# Altium schematic symbol library ITU_Rocket_Main_Board.SchLib: 32 symbols
Pins are listed as number, name and electrical type; pins without a type are passive.

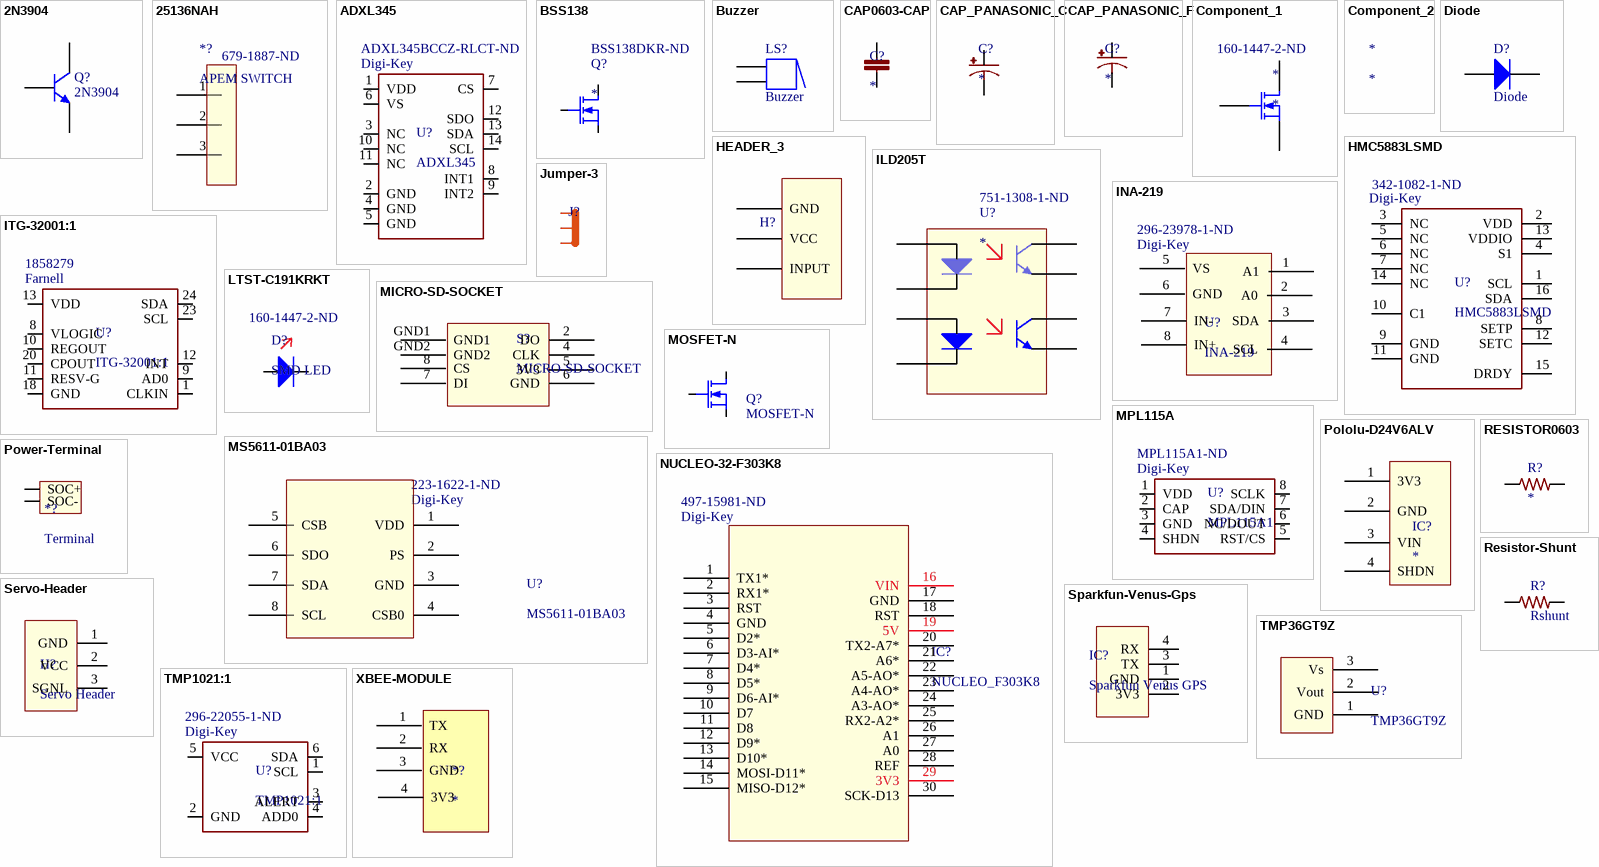
[diagram p0: symbols 2N3904 to XBEE-MODULE]

## 2N3904
designator Q?
NPN General Purpose Amplifier; Published: 8-Jun-2000; LatestRevisionDate: 15-Jan-2003; LatestRevisionNote: PCB Footprint 'BCY-W3/D4.7' replaced; DatasheetVersion: 1997; PackageVersion: Sep-1998; PackageReference: TO-92A; Publisher: Altium Limited; PackageDescription: TO, Flat Index; 3 In-Line, Axial Leads; Body Dia. 4.5mm; Leads 0.51 x 0.48 mm (max); ComponentLink1Description: Manufacturer Link; ComponentLink1URL: http://www.fairchildsemi.com/; ComponentLink2Description: Datasheet; ComponentLink2URL: http://www.fairchildsemi.com/ds/2N%2F2N3904.pdf
footprint TO-92A (TO, Flat Index; 3 In-Line, Axial Leads; Body Dia. 4.5mm; Leads 0.51 x 0.48 mm (max))
simulation model 2N3904 (NPN)
signal-integrity model 2N3904
pins: 1 E, 2 B, 3 C

## 25136NAH
designator *?, comment APEM SWITCH  Supplier Part Number 1: 679-1887-ND
SWITCH SLIDE SPDT 4A 125V; Manufacturer: Apem Inc.; Manufacturer Part Number: 25136NAH; Contact Timing: Not Specified; Switch Function: On-On; Current Rating: 4A (AC), 1A (DC); Voltage Rating - DC: 30V; Actuator Type: Standard; Actuator Length: 2.80mm; Actuator Material: Polyamide (PA), Nylon, Glass Filled; Switch Travel: 4.00mm; Mechanical Life: 20,000 Cycles; Electrical Life: 10,000 Cycles; Supplier 1: Digi-Key; RoHS: RoHS Compliant; Category: Switches; Stock 1: 2924; Pricing 1: 1=4.57, 50=4.243, 100=3.0039, 250=2.96436, 500=2.45056, 1000=2.29245, 5000=2.13435 (USD); Packaging: Bulk; Circuit: SPDT; Voltage Rating - AC: 125V; Contact Material: Silver (Ag); Contact Finish: -; Mounting Type: Through Hole; Termination Style: PC Pin; Features: Epoxy Sealed Terminals; Operating Temperature: -40°C ~ 85°C; Operating Force: -; ComponentLink1URL: http://www.apem.com/files/apem/brochures/switch-slide-25000N-ENG.pdf; ComponentLink1Description: http://www.apem.com/files/apem/brochures/switch-slide-25000N-ENG.pdf
footprint Switch_5.08
pins: 1, 2, 3

## ADXL345
designator U?  Supplier 1: Digi-Key  Supplier Part Number 1: ADXL345BCCZ-RLCT-ND
footprint LGA14
pins: 1 VDD, 2 GND, 3 NC, 4 GND, 5 GND, 6 VS, 7 CS, 8 INT1, 9 INT2, 10 NC, 11 NC, 12 SDO, 13 SDA, 14 SCL

## BSS138
designator Q?  Supplier Part Number 1: BSS138DKR-ND
MOSFET N-CH 50V 220MA SOT-23; Manufacturer: Fairchild Semiconductor; Manufacturer Part Number: BSS138; FET Type: MOSFET N-Channel, Metal Oxide; FET Feature: Logic Level Gate; Current - Continuous Drain (Id) @ 25°C: 220mA (Ta); Rds On (Max) @ Id, Vgs: 3.5 Ohm @ 220mA, 10V; Vgs(th) (Max) @ Id: 1.5V @ 1mA; Gate Charge (Qg) @ Vgs: 2.4nC @ 10V; Input Capacitance (Ciss) @ Vds: 27pF @ 25V; Power - Max: 360mW; Supplier 1: Digi-Key; RoHS: RoHS Compliant; Category: Discrete Semiconductor Products; Stock 1: 382113; Pricing 1: 1=0.22, 10=0.178, 100=0.0945, 500=0.06214, 1000=0.04234 (USD); Packaging: Digi-Reel®; Drain to Source Voltage (Vdss): 50V; Mounting Type: Surface Mount; Package / Case: TO-236-3, SC-59, SOT-23-3; Supplier Device Package: SOT-23; ComponentLink1URL: http://www.fairchildsemi.com/datasheets/BS/BSS138.pdf; ComponentLink1Description: http://www.fairchildsemi.com/datasheets/BS/BSS138.pdf
footprint SOT23-3
pins: D, G, S

## Buzzer
designator LS?
Magnetic Transducer Buzzer; Published: 24-Mar-1999; LatestRevisionDate: 17-Dec-2003; LatestRevisionNote: Schematic revised, PCB Footprint replaced.; DatasheetVersion: 17-Dec-2003; PackageReference: ABSM-1574; Publisher: Altium Limited; PackageDescription: Magnetic Transducer Buzzer; ComponentLink1Description: Manufacturer Link; ComponentLink1URL: http://www.megastar.com/linecard/buzzmode/index.php
footprint Buzzer-A3
pins: 1, 2
1 alternate drawing of the same symbol

## CAP0603-CAP
designator C?
Manufacturer: Fairchild Semiconductor; Manufacturer Part Number: BSS138; FET Type: MOSFET N-Channel, Metal Oxide; FET Feature: Logic Level Gate; Drain to Source Voltage (Vdss): 50V; Current - Continuous Drain (Id) @ 25°C: 220mA (Ta); Rds On (Max) @ Id, Vgs: 3.5 Ohm @ 220mA, 10V; Vgs(th) (Max) @ Id: 1.5V @ 1mA; Gate Charge (Qg) @ Vgs: 2.4nC @ 10V; Input Capacitance (Ciss) @ Vds: 27pF @ 25V; Power - Max: 360mW; RoHS: RoHS Compliant; Category: Discrete Semiconductor Products; Packaging: Cut Tape (CT); Mounting Type: Surface Mount; Package / Case: TO-236-3, SC-59, SOT-23-3; Supplier Device Package: SOT-23; ComponentLink1URL: http://www.fairchildsemi.com/datasheets/BS/BSS138.pdf; ComponentLink1Description: http://www.fairchildsemi.com/datasheets/BS/BSS138.pdf
footprint 0603-CAP
pins: 1, 2

## CAP_PANASONIC_C
designator C?
footprint PANASONIC_C
pins: +, -

## CAP_PANASONIC_F
designator C?
footprint PANASONIC_E
pins: +, -

## Component_1
designator *  Supplier Part Number 1: 160-1447-2-ND
Supplier 1: Digi-Key
pins: D, G, S

## Component_2
designator *

## Diode
designator D?
Default Diode; Published: 8-Jun-2000; LatestRevisionDate: 17-Jul-2002; LatestRevisionNote: Re-released for DXP Platform.; PackageVersion: Sep-1996; PackageReference: SMC; Publisher: Altium Limited; PackageDescription: DO-214-AB/SMC; 2 C-Bend Leads; Body 7.9 x 5.9 mm, inc. leads (LxW); Code_JEDEC: DO-214-AB
footprint SMB (DO-214-AA/SMB; 2 C-Bend Leads; Body 5.3 x 3.6 mm, inc. leads (LxW))
pins: 1 A, 2 K

## HEADER_3
designator H?, comment Header  (value not drawn)
footprint HEADER_3
pins: 1 GND, 2 VCC, 3 INPUT

## HMC5883LSMD
designator U?  Supplier 1: Digi-Key  Supplier Part Number 1: 342-1082-1-ND
PROD_ID: IC-10284
footprint 16LPCC
pins: 1 SCL, 2 VDD, 3 NC, 4 S1, 5 NC, 6 NC, 7 NC, 8 SETP, 9 GND, 10 C1, 11 GND, 12 SETC, 13 VDDIO, 14 NC, 15 DRDY, 16 SDA

## ILD205T
designator U?  Supplier Part Number 1: 751-1308-1-ND
OPTOISOLTR 4KV 2CH TRANS 8-SOIC; Manufacturer: Vishay Semiconductor Opto Division; Manufacturer Part Number: ILD205T; Number of Channels: 2; Voltage - Isolation: 4000Vrms; Current Transfer Ratio (Min): 40% @ 10mA; Current Transfer Ratio (Max): 80% @ 10mA; Turn On / Turn Off Time (Typ): 6µs, 5µs; Rise / Fall Time (Typ): 3µs, 4.7µs; Input Type: DC; Output Type: Transistor; Voltage - Output (Max): 70V; Voltage - Forward (Vf) (Typ): 1.2V; Current - DC Forward (If) (Max): 30mA; Vce Saturation (Max): 400mV; Supplier 1: Digi-Key; RoHS: RoHS Compliant; Category: Isolators; Stock 1: 3215; Pricing 1: 1=1.52, 10=1.213, 25=0.9268, 100=0.8425, 250=0.7414, 500=0.62346, 750=0.55605, 1000=0.5392 (USD); Packaging: Cut Tape (CT); Current - Output / Channel: -; Operating Temperature: -55°C ~ 100°C; Mounting Type: Surface Mount; Package / Case: 8-SOIC (0.154", 3.90mm Width); Supplier Device Package: 8-SOIC; ComponentLink1URL: http://www.vishay.com/docs/83647/ild205t.pdf; ComponentLink1Description: http://www.vishay.com/docs/83647/ild205t.pdf
footprint SOIC-8-ILD205T (SOIC, 8-Leads, Body 6,00x3,96mm, Pitch 1,27mm, IPC Medium Density)
pins: 1 A, 2 C, 3 A, 4 C, 5 E, 6 C, 7 E, 8 C

## INA-219
designator U?  Supplier 1: Digi-Key  Supplier Part Number 1: 296-23978-1-ND
footprint SOIC127P600X175-8N (SOIC, 8-Leads, Body 4,90x3,90mm, Pitch 1,27mm, IPC Medium Density)
pins: 1 A1, 2 A0, 3 SDA, 4 SCL, 5 VS, 6 GND, 7 IN-, 8 IN+

## ITG-32001:1
designator U?  Supplier 1: Farnell  Supplier Part Number 1: 1858279
PROD_ID: IC-09685
footprint QFN-24_ITG3200_1:1
pins: 1 CLKIN, 8 VLOGIC, 9 AD0, 10 REGOUT, 11 RESV-G, 12 INT, 13 VDD, 18 GND, 20 CPOUT, 23 SCL, 24 SDA

## Jumper-3
designator J?
footprint SJ_3
pins: 1, 2, 3

## LTST-C191KRKT
designator D?, comment SMD LED  Supplier Part Number 1: 160-1447-2-ND
LED RED CLEAR 0603 SMD; Manufacturer: Lite-On Inc.; Manufacturer Part Number: LTST-C191KRKT; Lens Color: Colorless; Millicandela Rating: 54mcd; Lens Style/Size: Rectangle with Flat Top, 1.10mm x 0.80mm; Voltage - Forward (Vf) (Typ): 2V; Current - Test: 20mA; Viewing Angle: 130°; Wavelength - Dominant: 631nm; Wavelength - Peak: 639nm; Supplier 1: Digi-Key; RoHS: RoHS Compliant; Category: Optoelectronics; Stock 1: 305000; Pricing 1: 5000=0.03636, 10000=0.03272, 25000=0.02909, 50000=0.02636, 125000=0.02454 (USD); Packaging: Tape & Reel (TR); Color: Red; Lens Transparency: Clear; Mounting Type: Surface Mount; Features: -; Package / Case: 0603 (1608 Metric); Supplier Device Package: *; Size / Dimension: 1.60mm L x 0.80mm W; Height (Max): 0.55mm; ComponentLink1URL: http://optoelectronics.liteon.com/upload/download/DS22-2000-223/S_110_LTST-C191KRKT.pdf; ComponentLink1Description: http://optoelectronics.liteon.com/upload/download/DS22-2000-223/S_110_LTST-C191KRKT.pdf
footprint 0603-SMD-LED
pins: 1 A, 2 K

## MICRO-SD-SOCKET
designator S?
footprint micro-sd
pins: 2 DO, 4 CLK, 5 3V3, 6 GND, 7 DI, 8 CS, GND1, GND2

## MOSFET-N
designator Q?
N-Channel MOSFET; Published: 8-Jun-2000; LatestRevisionDate: 17-Jul-2002; LatestRevisionNote: Re-released for DXP Platform.; PackageVersion: 1995/1996; PackageReference: E3; Publisher: Altium Limited; PackageDescription: TO, Flat Index; 3 In-Line, Axial Leads; Body Dia. 4.6mm; Lead Dia. 0.5 mm (max)
footprint to-252
pins: D, G, S

## MPL115A
designator U?, comment MPL115A1  Supplier 1: Digi-Key  Supplier Part Number 1: MPL115A1-ND
footprint LGA8
pins: 1 VDD, 2 CAP, 3 GND, 4 SHDN, 5 RST/CS, 6 NC/DOUT, 7 SDA/DIN, 8 SCLK

## MS5611-01BA03
designator U?  Supplier 1: Digi-Key  Supplier Part Number 1: 223-1622-1-ND
footprint MS5611-01BA03
pins: 1 VDD (power), 2 PS, 3 GND (power), 4 CSB0, 5 CSB, 6 SDO, 7 SDA, 8 SCL

## NUCLEO-32-F303K8
designator IC?, comment NUCLEO_F303K8  Supplier 1: Digi-Key  Supplier Part Number 1: 497-15981-ND
footprint nucleo_f303 (breakoutboard)
pins: 1 TX1*, 2 RX1*, 3 RST, 4 GND, 5 D2*, 6 D3-AI*, 7 D4*, 8 D5*, 9 D6-AI*, 10 D7, 11 D8, 12 D9*, 13 D10*, 14 MOSI-D11*, 15 MISO-D12*, 16 VIN, 17 GND, 18 RST, 19 5V, 20 TX2-A7*, 21 A6*, 22 A5-AO*, 23 A4-AO*, 24 A3-AO*, 25 RX2-A2*, 26 A1, 27 A0, 28 REF, 29 3V3, 30 SCK-D13

## Pololu-D24V6ALV
designator IC?
footprint Pololu-D24V6ALV
pins: 1 3V3, 2 GND, 3 VIN, 4 SHDN

## Power-Terminal
designator *?, comment Terminal
footprint POWER_SOCKET
pins: + SOC+, - SOC-

## RESISTOR0603
designator R?
footprint 0603-RES
pins: 1, 2

## Resistor-Shunt
designator R?, comment Rshunt
footprint Resistor-Shunt
pins: + 2, - 1

## Servo-Header
designator H?, comment Servo Header
footprint SERVO
pins: 1 GND, 2 VCC, 3 SGNL

## Sparkfun-Venus-Gps
designator IC?, comment Sparkfun Venus GPS
footprint SPARKFUN_VENUS_GPS
pins: 1 GND, 2 3V3, 3 TX, 4 RX

## TMP36GT9Z
designator U?
SENSOR TEMP RATIOMETRIC TO92-3
footprint TO-92-AMMO
pins: 1 GND, 2 Vout, 3 Vs

## TMP1021:1
designator U?  Supplier 1: Digi-Key  Supplier Part Number 1: 296-22055-1-ND
footprint SOT563-2
pins: 1 SCL, 2 GND, 3 ALERT, 4 ADD0, 5 VCC, 6 SDA

## XBEE-MODULE
designator *?
footprint XBEE-MODULE
pins: 1 TX, 2 RX, 3 GND, 4 3V3